# Altium integrated library Schottky.IntLib: 8 symbols
Pins are listed as number, name and electrical type; pins without a type are passive.

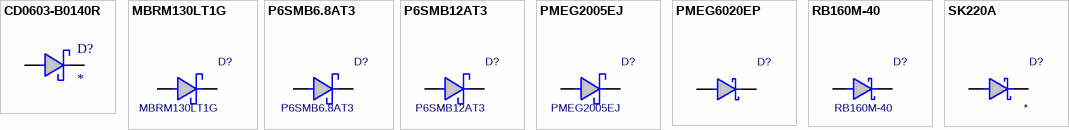
[diagram p0: symbols CD0603-B0140R to SK220A]

## CD0603-B0140R
designator D?
Schottkey 40V, 0.1A, 450mV; Supplier 1: Farnell; Supplier Part Number 1: 2341899
footprint CD1608_0603I_L (Diode, Chip; 1.70 mm L X 0.90 mm W X 0.85 mm H body); pin to pad 1>C 2>A
footprint CD1608_0603I_M (Diode, Chip; 1.70 mm L X 0.90 mm W X 0.85 mm H body); pin to pad 1>C 2>A
footprint CD1608_0603I_N (Diode, Chip; 1.70 mm L X 0.90 mm W X 0.85 mm H body); pin to pad 1>C 2>A
pins: 1, 2

## MBRM130LT1G
designator D?
Value: *
footprint POWERMITE1; pin to pad 1>2 2>1
pins: 1, 2

## P6SMB6.8AT3
designator D?
Value: *
footprint DO-214AA_SMB_M (Diode, Molded Body; 5.40 mm L X 3.62 mm W X 2.44 mm H body); pin to pad K>C
footprint DO-214AA_SMB_M (Diode, Molded Body; 5.40 mm L X 3.62 mm W X 2.44 mm H body); pin to pad K>C
footprint DO-214AA_SMB_N (Diode, Molded Body; 5.40 mm L X 3.62 mm W X 2.44 mm H body); pin to pad K>C
pins: A, K

## P6SMB12AT3
designator D?
Value: *
footprint DO-214AA_SMB_L (Diode, Molded Body; 5.40 mm L X 3.62 mm W X 2.44 mm H body); pin to pad K>C
footprint DO-214AA_SMB_M (Diode, Molded Body; 5.40 mm L X 3.62 mm W X 2.44 mm H body); pin to pad K>C
footprint DO-214AA_SMB_N (Diode, Molded Body; 5.40 mm L X 3.62 mm W X 2.44 mm H body); pin to pad K>C
pins: A, K

## PMEG2005EJ
designator D?
Value: *
footprint SOD-323F_L (Diode, Small Outline Diode Flat Lead (SODFL); 1.70 mm L X 1.25 mm W X 0.80 mm H body); pin to pad 1>C 2>A
footprint SOD-323F_M (Diode, Small Outline Diode Flat Lead (SODFL); 1.70 mm L X 1.25 mm W X 0.80 mm H body); pin to pad 1>C 2>A
footprint SOD-323F_N (Diode, Small Outline Diode Flat Lead (SODFL); 1.70 mm L X 1.25 mm W X 0.80 mm H body); pin to pad 1>C 2>A
pins: 1, 2

## PMEG6020EP
designator D?  (value not drawn)
Schottky 2A, 60V, Vf@2A=460-530mV; Value: *
footprint SOD-128_L (Diode, Small Outline Diode Flat Lead (SODFL); 3.80 mm L X 2.50 mm W X 1.10 mm H body); pin to pad 1>C 2>A
footprint SOD-128_M (Diode, Small Outline Diode Flat Lead (SODFL); 3.80 mm L X 2.50 mm W X 1.10 mm H body); pin to pad 1>C 2>A
footprint SOD-128_N (Diode, Small Outline Diode Flat Lead (SODFL); 3.80 mm L X 2.50 mm W X 1.10 mm H body); pin to pad 1>C 2>A
pins: 1 K, 2 A

## RB160M-40
designator D?
Schottky 1A, 40V; Value: *
footprint SOD-123F_L (Diode, Small Outline Diode Flat Lead (SODFL); 2.60 mm L X 1.60 mm W X 1.20 mm H body); pin to pad 1>C 2>A
footprint SOD-123F_M (Diode, Small Outline Diode Flat Lead (SODFL); 2.60 mm L X 1.60 mm W X 1.20 mm H body); pin to pad 1>C 2>A
footprint SOD-123F_N (Diode, Small Outline Diode Flat Lead (SODFL); 2.60 mm L X 1.60 mm W X 1.20 mm H body); pin to pad 1>C 2>A
pins: 1, 2

## SK220A
designator D?
Schottky; Value: *
footprint DO-214AC_SMA_L (Diode, Molded Body; 5.20 mm L X 2.55 mm W X 3.00 mm H body); pin to pad 1>C 2>A
footprint DO-214AC_SMA_M (Diode, Molded Body; 5.20 mm L X 2.55 mm W X 3.00 mm H body); pin to pad 1>C 2>A
footprint DO-214AC_SMA_N (Diode, Molded Body; 5.20 mm L X 2.55 mm W X 3.00 mm H body); pin to pad 1>C 2>A
pins: 1 K, 2 A